# Altium footprint library power_board_evm.PcbLib: 46 footprints (part 2 of 3)
Each footprint in its own frame and in the unit in brackets; x right, y up, seen from the top. Pads: shape width x height; smd on the part's side, far side on the other; paste and mask are expansions set on the pad; w line width, h text height; cw(c..) or ccw(c..) is an arc to the next point about the centre after c.
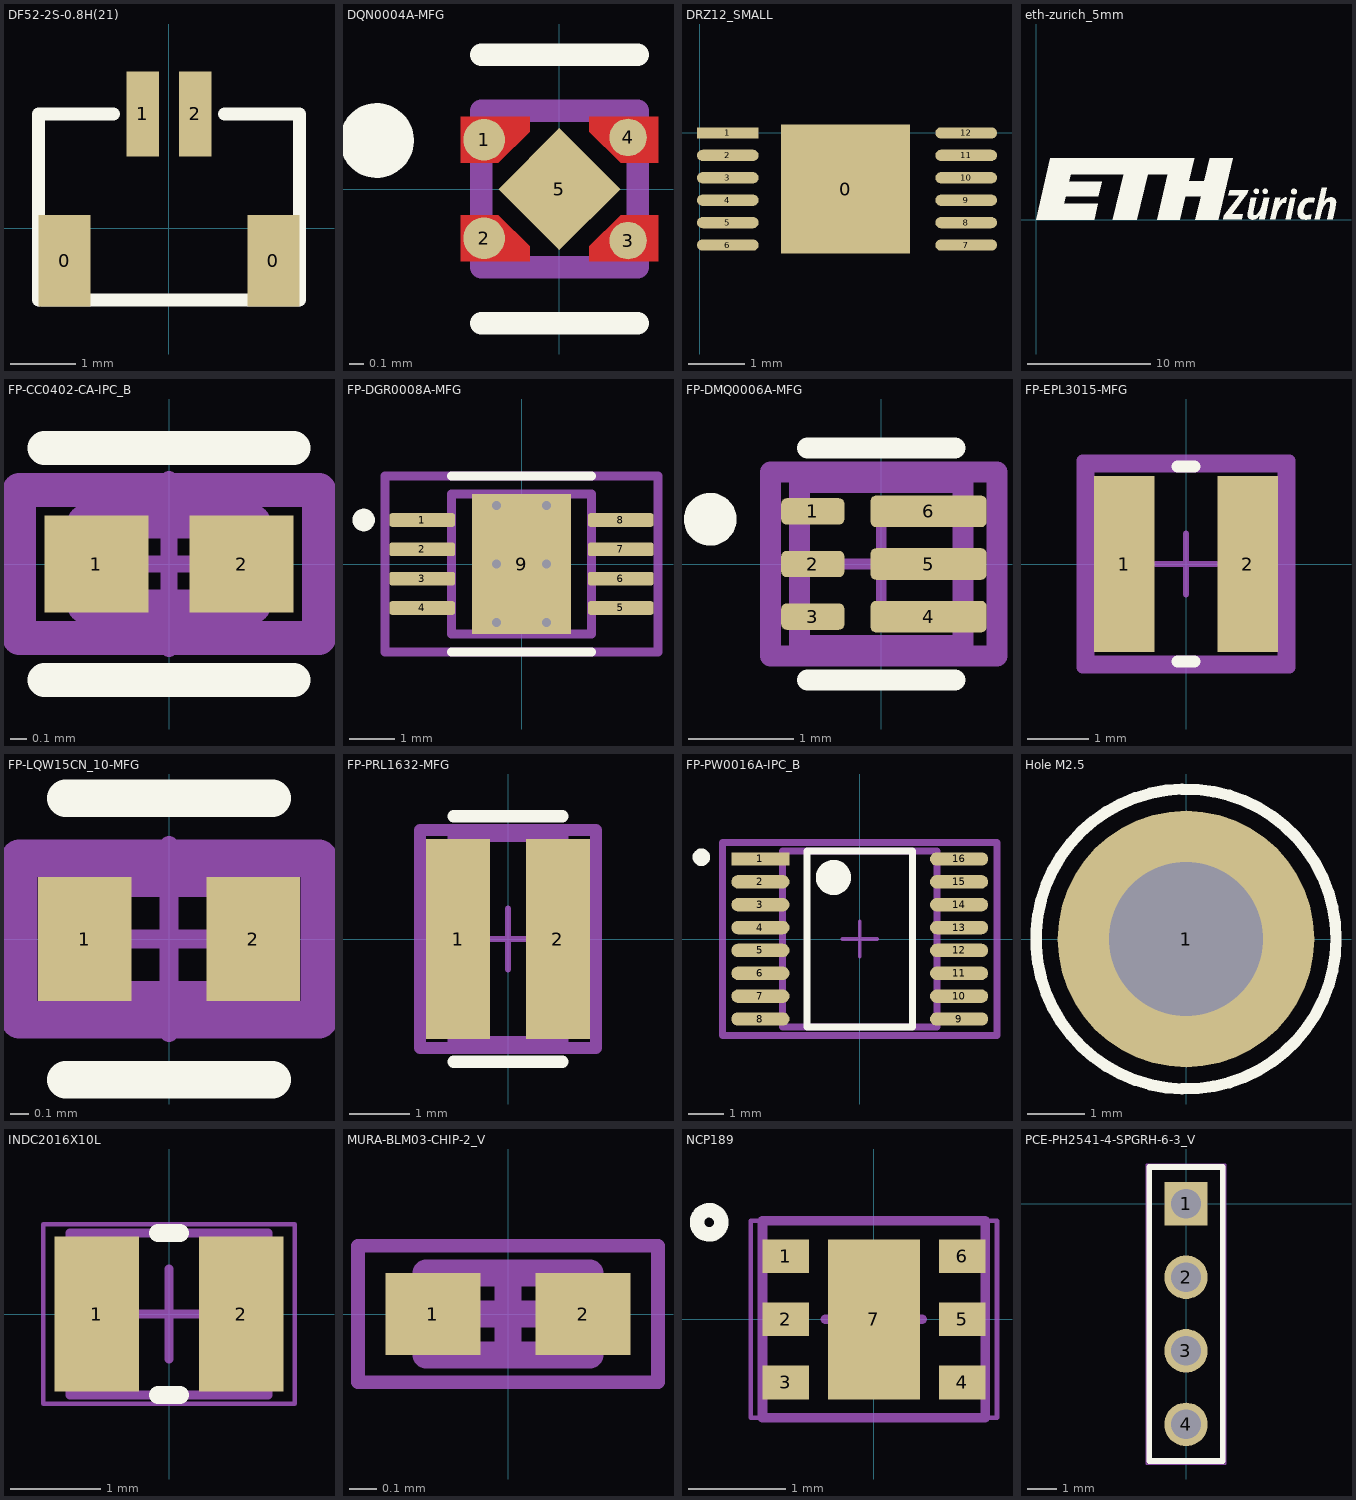
[diagram p1: the footprints below, top view; thin cyan lines are the x and y axes]

## DF52-2S-0.8H(21) [mm]
pads (4):
  rect 0.8x1.4 smd: 0(-1.6,-0.5) 0(1.6,-0.5)
  rect 0.5x1.3 smd: 1(-0.4,1.75) 2(0.4,1.75)
Top Overlay:
  lines w0.2: -2,-1.1 -2,1.75 -0.85,1.75 ; -1.95,-1.1 2,-1.1 2,1.75 0.85,1.75
3D body "DF52-2S-0.8H.stp": height 1.66, standoff -0.09, extent -1.9,-1.05 1.9,1.72

## DQN0004A-MFG [mm]
pads (5):
  round 0.279 smd paste-0.127 mask-0.127: 1(-0.505,0.33) 2(-0.505,-0.33)
  round 0.251 smd paste-0.113 mask-0.114: 3(0.459,-0.346) 4(0.459,0.346)
  rect 0.58x0.58 smd rot 135 paste-0.277 mask-0.279: 5(0,0)
Top Layer:
  region: -0.66,0.175 -0.66,0.485 -0.2,0.485 -0.2,0.385 -0.41,0.175
  region: 0.66,-0.175 0.66,-0.485 0.2,-0.485 0.2,-0.385 0.41,-0.175
  region: 0.66,0.175 0.66,0.485 0.2,0.485 0.2,0.385 0.41,0.175
  region: -0.66,-0.175 -0.66,-0.485 -0.2,-0.485 -0.2,-0.385 -0.41,-0.175
Top Overlay:
  circle w0.25: c-1.225,0.325 r0.125
  lines w0.15: -0.525,-0.9 0.525,-0.9 ; -0.525,0.9 0.525,0.9
Top Paste:
  region: 0.283,0.035 0.283,-0.035 0.035,-0.283 -0.035,-0.283 -0.283,-0.035 -0.283,0.035 -0.035,0.283 0.035,0.283
  region: -0.65,0.225 -0.65,0.435 -0.25,0.435 -0.25,0.405 -0.43,0.225
  region: 0.65,0.225 0.65,0.435 0.25,0.435 0.25,0.405 0.43,0.225
  region: -0.65,-0.225 -0.65,-0.435 -0.25,-0.435 -0.25,-0.405 -0.43,-0.225
  region: 0.65,-0.225 0.65,-0.435 0.25,-0.435 0.25,-0.405 0.43,-0.225
Top Solder:
  region: -0.304,-0.035 -0.304,0.035 -0.035,0.304 0.035,0.304 0.304,0.035 0.304,-0.035 0.035,-0.304 -0.035,-0.304
  region: -0.61,0.225 -0.61,0.435 -0.25,0.435 -0.25,0.405 -0.43,0.225
  region: 0.61,0.225 0.61,0.435 0.25,0.435 0.25,0.405 0.43,0.225
  region: 0.61,-0.225 0.61,-0.435 0.25,-0.435 0.25,-0.405 0.43,-0.225
  region: -0.61,-0.225 -0.61,-0.435 -0.25,-0.435 -0.25,-0.405 -0.43,-0.225
Mechanical 13:
  lines w0.15: -0.525,-0.525 0.525,-0.525 0.525,0.525 -0.525,0.525 -0.525,-0.525
3D body: height 0.25, standoff 0, extent 0,0 0.254,0.254

## DRZ12_SMALL [mm]
pads (13):
  rect 2.3x2.3 smd: 0(2.6,-1)
  rect 1.1x0.2 smd: 1(0.5,0)
  oval 1.1x0.2 smd: 2(0.5,-0.4) 3(0.5,-0.8) 4(0.5,-1.2) 5(0.5,-1.6) 6(0.5,-2) 7(4.75,-2) 8(4.75,-1.6) 9(4.75,-1.2) 10(4.75,-0.8) 11(4.75,-0.4) 12(4.75,0)

## eth-zurich_5mm [mm]
Top Overlay:
  drawing of 10 lines, arcs and shapes, not listed
Top Solder:
  drawing of 10 lines, arcs and shapes, not listed

## FP-CC0402-CA-IPC_B [mm]
pads (2):
  rect 0.615x0.572 smd paste+0 mask+0: 1(-0.429,0) 2(0.429,0)
Top Overlay:
  lines w0.2: -0.736,-0.686 0.736,-0.686 ; -0.736,0.686 0.736,0.686
Top 3D Body:
  lines w0.2: -0.5,-0.25 0.5,-0.25 0.5,0.25 -0.5,0.25 -0.5,-0.25
Top Courtyard:
  lines w0.2: -0.886,-0.436 0.886,-0.436 0.886,0.436 -0.886,0.436 -0.886,-0.436
Top Assembly:
  lines w0.2: -0.886,-0.436 0.886,-0.436 0.886,0.436 -0.886,0.436 -0.886,-0.436
  text ".Designator" at 0,0.188 h1
Mechanical 8:
  lines w0.1: -0.5,0 0.5,0
Mechanical 9:
  lines w0.1: 0,-0.5 0,0.5
3D body "Cap_Yageo_CC0402KRX5R9BB471_eec.STEP": height 0.25, standoff 0, extent -0.886,-0.436 0.886,0.436

## FP-DGR0008A-MFG [mm]
pads (9):
  rrect33% 1.45x0.3 smd paste+0 mask+0: 1(-2.2,0.975) 2(-2.2,0.325) 3(-2.2,-0.325) 4(-2.2,-0.975) 5(2.2,-0.975) 6(2.2,-0.325) 7(2.2,0.325) 8(2.2,0.975)
  rect 2.2x3.1 smd paste-1000 mask-1000: 9(0,0)
via -0.55,1.3 diameter 0.5 hole 0.2
via -0.55,0 diameter 0.5 hole 0.2
via -0.55,-1.3 diameter 0.5 hole 0.2
via 0.55,1.3 diameter 0.5 hole 0.2
via 0.55,0 diameter 0.5 hole 0.2
via 0.55,-1.3 diameter 0.5 hole 0.2
Top Overlay:
  circle w0.25: c-3.5,0.975 r0.125
  lines w0.2: -1.55,-1.95 1.55,-1.95 ; -1.55,1.95 1.55,1.95
Top Paste:
  rectangle: -0.675,-0.825 0.675,0.825
Top Solder:
  rectangle: -0.675,-0.825 0.675,0.825
Top 3D Body:
  lines w0.2: -1.55,-1.55 1.55,-1.55 1.55,1.55 -1.55,1.55 -1.55,-1.55
Top Courtyard:
  lines w0.2: -3.025,-1.95 3.025,-1.95 3.025,1.95 -3.025,1.95 -3.025,-1.95
Top Assembly:
  lines w0.2: -3.025,-1.95 3.025,-1.95 3.025,1.95 -3.025,1.95 -3.025,-1.95
  text ".Designator" at 0,0.188 h1
Mechanical70:
  lines w0.1: -0.5,0 0.5,0
Mechanical71:
  lines w0.1: 0,-0.5 0,0.5
3D body "IC_Texas_Instruments_TPS62842DGRR_eec.STEP": height 0.25, standoff 0, extent -3.025,-1.95 3.025,1.95

## FP-DMQ0006A-MFG [mm]
pads (6):
  rrect40% 0.6x0.25 smd paste+0 mask-1000: 1(-0.65,0.5) 2(-0.65,0) 3(-0.65,-0.5)
  rrect33% 1.1x0.3 smd paste-1000 mask-1000: 4(0.45,-0.5) 5(0.45,0) 6(0.45,0.5)
Top Overlay:
  circle w0.25: c-1.625,0.425 r0.125
  lines w0.2: -0.7,-1.1 0.7,-1.1 ; -0.7,1.1 0.7,1.1
Top Paste:
  region: 0.9,-0.4 0.91,-0.4 0.928,-0.408 0.942,-0.422 0.95,-0.44 0.95,-0.45 0.95,-0.55 0.95,-0.56 0.942,-0.578 0.928,-0.592 0.91,-0.6 0.9,-0.6 0.15,-0.6 0.14,-0.6 0.122,-0.592 0.108,-0.578 0.1,-0.56 0.1,-0.55 0.1,-0.45 0.1,-0.44 0.108,-0.422 0.122,-0.408 0.14,-0.4 0.15,-0.4
  region: 0.95,0.05 0.95,-0.05 0.95,-0.06 0.942,-0.078 0.928,-0.092 0.91,-0.1 0.9,-0.1 0.15,-0.1 0.14,-0.1 0.122,-0.092 0.108,-0.078 0.1,-0.06 0.1,-0.05 0.1,0.05 0.1,0.06 0.108,0.078 0.122,0.092 0.14,0.1 0.15,0.1 0.9,0.1 0.91,0.1 0.928,0.092 0.942,0.078 0.95,0.06
  region: 0.1,0.45 0.1,0.55 0.1,0.56 0.108,0.578 0.122,0.592 0.14,0.6 0.15,0.6 0.9,0.6 0.91,0.6 0.928,0.592 0.942,0.578 0.95,0.56 0.95,0.55 0.95,0.45 0.95,0.44 0.942,0.422 0.928,0.408 0.91,0.4 0.9,0.4 0.15,0.4 0.14,0.4 0.122,0.408 0.108,0.422 0.1,0.44
Top Solder:
  drawing of 6 lines, arcs and shapes, not listed
Top 3D Body:
  lines w0.2: -0.775,-0.775 0.775,-0.775 0.775,0.775 -0.775,0.775 -0.775,-0.775
Top Courtyard:
  lines w0.2: -1.05,-0.875 1.1,-0.875 1.1,0.875 -1.05,0.875 -1.05,-0.875
Top Assembly:
  lines w0.2: -1.05,-0.875 1.1,-0.875 1.1,0.875 -1.05,0.875 -1.05,-0.875
  text ".Designator" at 0.025,0.188 h1
Mechanical72:
  lines w0.1: -0.5,0 0.5,0
Mechanical73:
  lines w0.1: 0,-0.5 0,0.5
3D body "IC_Texas_Instruments_TPS62826DMQR_eec.STEP": height 0.25, standoff 0, extent -1.05,-0.875 1.1,0.875

## FP-EPL3015-MFG [mm]
pads (2):
  rect 1x2.9 smd paste+0 mask+0: 1(-1.015,0) 2(1.015,0)
Top Overlay:
  lines w0.2: -0.14,-1.6 0.14,-1.6 ; -0.14,1.6 0.14,1.6
Top 3D Body:
  lines w0.2: -1.6,-1.6 1.6,-1.6 1.6,1.6 -1.6,1.6 -1.6,-1.6
Top Courtyard:
  lines w0.2: -1.7,-1.7 1.7,-1.7 1.7,1.7 -1.7,1.7 -1.7,-1.7
Top Assembly:
  lines w0.2: -1.7,-1.7 1.7,-1.7 1.7,1.7 -1.7,1.7 -1.7,-1.7
  text ".Designator" at 0,0.188 h1
Mechanical 22:
  lines w0.1: -0.5,0 0.5,0
Mechanical 25:
  lines w0.1: 0,-0.5 0,0.5
3D body "Ind_Coilcraft_EPL3015-472MLB_eec.STEP": height 0.25, standoff 0, extent -1.7,-1.7 1.7,1.7

## FP-LQW15CN_10-MFG [mm]
pads (2):
  rect 0.5x0.66 smd paste+0 mask+0: 1(-0.45,0) 2(0.45,0)
Top Overlay:
  lines w0.2: -0.55,-0.75 0.55,-0.75 ; -0.55,0.75 0.55,0.75
Top 3D Body:
  lines w0.2: -0.55,-0.325 0.55,-0.325 0.55,0.325 -0.55,0.325 -0.55,-0.325
Top Courtyard:
  lines w0.2: -0.8,-0.43 0.8,-0.43 0.8,0.43 -0.8,0.43 -0.8,-0.43
Top Assembly:
  lines w0.2: -0.8,-0.43 0.8,-0.43 0.8,0.43 -0.8,0.43 -0.8,-0.43
  text ".Designator" at 0,0.188 h1
Mechanical 18:
  lines w0.1: -0.5,0 0.5,0
Mechanical 19:
  lines w0.1: 0,-0.5 0,0.5
3D body "Ind_Murata_LQW15CN1R0M10B_eec.STEP": height 0.25, standoff 0, extent -0.8,-0.43 0.8,0.43

## FP-PRL1632-MFG [mm]
pads (2):
  rect 1.05x3.3 smd paste+0 mask+0: 1(-0.825,0) 2(0.825,0)
Top Overlay:
  lines w0.2: -0.9,-2.025 0.9,-2.025 ; -0.9,2.025 0.9,2.025
Top 3D Body:
  lines w0.2: -0.9,-1.7 0.9,-1.7 0.9,1.7 -0.9,1.7 -0.9,-1.7
Top Courtyard:
  lines w0.2: -1.45,-1.8 1.45,-1.8 1.45,1.8 -1.45,1.8 -1.45,-1.8
Top Assembly:
  lines w0.2: -1.45,-1.8 1.45,-1.8 1.45,1.8 -1.45,1.8 -1.45,-1.8
  text ".Designator" at 0,0.188 h1
Mechanical78:
  lines w0.1: -0.5,0 0.5,0
Mechanical79:
  lines w0.1: 0,-0.5 0,0.5
3D body "Res_Susumu_PRL1632-R006-F-T1_eec.STEP": height 0.25, standoff 0, extent -1.45,-1.8 1.45,1.8

## FP-PW0016A-IPC_B [mm]
pads (16):
  rect 1.655x0.381 smd paste+0 mask+0: 1(-2.825,2.275)
  rrect100% 1.655x0.381 smd paste+0 mask+0: 2(-2.825,1.625) 3(-2.825,0.975) 4(-2.825,0.325) 5(-2.825,-0.325) 6(-2.825,-0.975) 7(-2.825,-1.625) 8(-2.825,-2.275) 9(2.825,-2.275) 10(2.825,-1.625) 11(2.825,-0.975) 12(2.825,-0.325) 13(2.825,0.325) 14(2.825,0.975) 15(2.825,1.625) 16(2.825,2.275)
Top Overlay:
  circle w0.5: c-0.748,1.75 r0.25
  circle w0.25: c-4.503,2.325 r0.125
  lines w0.2: -1.498,-2.5 1.498,-2.5 1.498,2.5 -1.498,2.5 -1.498,-2.5
Top 3D Body:
  lines w0.2: -2.2,-2.5 2.2,-2.5 2.2,2.5 -2.2,2.5 -2.2,-2.5
Top Courtyard:
  lines w0.2: -3.903,-2.75 3.903,-2.75 3.903,2.75 -3.903,2.75 -3.903,-2.75
Top Assembly:
  lines w0.2: -3.903,-2.75 3.903,-2.75 3.903,2.75 -3.903,2.75 -3.903,-2.75
  text ".Designator" at 0,0.188 h1
Mechanical74:
  lines w0.1: -0.5,0 0.5,0
Mechanical75:
  lines w0.1: 0,-0.5 0,0.5
3D body "IC_TEXAS_INSTRUMENTS_SN74HC165PWR_eec.STEP": height 0.25, standoff 0, extent -3.903,-2.75 3.903,2.75

## Hole M2.5 [mm]
pads (1):
  round 4.5 hole 2.7: 1(0,0)
Top Overlay:
  circle w0.2: c0,0 r2.63
Bottom Overlay:
  circle w0.2: c0,0 r2.63
Top Solder:
  circle w1.9: c0,0 r0.95
Bottom Solder:
  circle w1.9: c0,0 r0.95

## INDC2016X10L [mm]
pads (2):
  rect 0.94x1.73 smd: 1(-0.805,0) 2(0.805,0)
Top Overlay:
  lines w0.2: -0.12,-0.9 0.12,-0.9 ; -0.12,0.9 0.12,0.9
Mechanical 12:
  lines w0.1: -1.1,-0.9 1.1,-0.9 1.1,0.9 -1.1,0.9 -1.1,-0.9
Mechanical 15:
  lines w0.05: -1.4,-1 1.4,-1 1.4,1 -1.4,1 -1.4,-1
  lines w0.1: -0.5,0 0.5,0 ; 0,-0.5 0,0.5
3D body "INDC2016X10L.step": height 1, standoff 0, extent -1.1,-0.9 1.1,0.9

## MURA-BLM03-CHIP-2_V [mm]
pads (2):
  rect 0.35x0.3 smd: 1(-0.275,0) 2(0.275,0)
Mechanical 13:
  lines w0.1: -0.3,-0.15 0.3,-0.15 0.3,0.15 -0.3,0.15 -0.3,-0.15
Mechanical 15:
  lines w0.05: -0.55,-0.25 -0.55,0.25 0.55,0.25 0.55,-0.25 -0.55,-0.25
  lines w0.1: -0.125,0 0.125,0 ; 0,-0.125 0,0.125
3D body: height 0.33, standoff 0, extent -0.3,-0.15 0.3,0.15

## NCP189 [mm]
height 1
pads (7):
  rect 0.48x0.35 smd: 1(-0.91,0.65) 2(-0.91,0) 3(-0.91,-0.65) 4(0.91,-0.65) 5(0.91,0) 6(0.91,0.65)
  rect 0.95x1.65 smd: 7(0,0)
Top Overlay:
  circle w0.15: c-1.7,1 r0.125
Top Courtyard:
  lines w0.05: -1.27,-1.016 1.27,-1.016 1.27,1.016 -1.27,1.016 -1.27,-1.016
  lines w0.1: -0.5,0 0.5,0 ; 0,-0.5 0,0.5
Top Assembly:
  lines w0.1: -1.15,-1.016 -1.15,1.016 1.15,1.016 1.15,-1.016 -1.15,-1.016
3D body: height 0.75, standoff 0, extent -1,-1 1,1
3D body: height 1, standoff 1, extent 0,0 0,0

## PCE-PH2541-4-SPGRH-6-3_V [mm]
pads (4):
  rect 1.5x1.5 hole 1.02: 1(0,0)
  round 1.5 hole 1.02: 2(0,-2.54) 3(0,-5.08) 4(0,-7.62)
Top Overlay:
  lines w0.2: -1.27,-8.89 -1.27,1.27 1.27,1.27 1.27,-8.89 -1.27,-8.89
Mechanical 15:
  lines w0.05: -1.37,-8.99 1.37,-8.99 1.37,1.37 -1.37,1.37 -1.37,-8.99
3D body: height 8.54, standoff -3, extent -0.35,-7.969 0.347,-7.271
3D body: height 2.54, standoff 0, extent -1.27,-8.89 1.27,-6.35
3D body: height 2.54, standoff 0, extent -1.27,-6.35 1.27,-3.81
3D body: height 8.54, standoff -3, extent -0.347,-5.429 0.35,-4.73
3D body: height 2.54, standoff 0, extent -1.27,-3.81 1.27,-1.27
3D body: height 8.54, standoff -3, extent -0.35,-2.889 0.347,-2.191
3D body: height 8.54, standoff -3, extent -0.35,-0.349 0.347,0.349
3D body: height 2.54, standoff 0, extent -1.27,-1.27 1.27,1.27